# EAGLE library part PS501-0901 (library microchip2)
Single Chip Field Reprogrammable Battery Manager – Nickel Chemistries
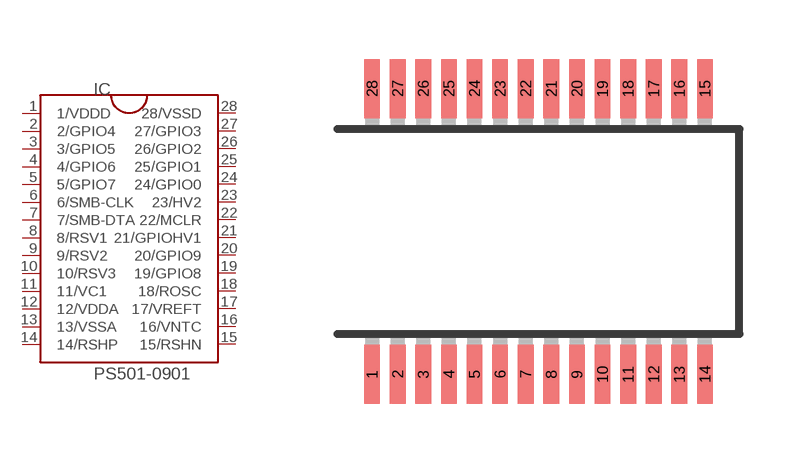
[diagram p190: symbol with the pads of SSOP28; footprint SSOP28]

Designator prefix IC

## PS501-0901  [SSOP28]
1  1/VDDD  pwr
2  2/GPIO4
3  3/GPIO5
4  4/GPIO6
5  5/GPIO7
6  6/SMB-CLK
7  7/SMB-DTA
8  8/RSV1  in
9  9/RSV2  in
10  10/RSV3  in
11  11/VC1  in
12  12/VDDA  pwr
13  13/VSSA  pwr
14  14/RSHP  in
15  15/RSHN  in
16  16/VNTC  in
17  17/VREFT  out
18  18/ROSC  in
19  19/GPIO8
20  20/GPIO9
21  21/GPIOHV1
22  22/MCLR  in
23  23/HV2
24  24/GPIO0
25  25/GPIO1
26  26/GPIO2
27  27/GPIO3
28  28/VSSD  pwr

## Footprint SSOP28 (pad centres in mm)
Shrink Small Outline Package package type SS
smd 0.4 x 1.5: 1 -4.225,-3.625; 2 -3.575,-3.625; 3 -2.925,-3.625; 4 -2.275,-3.625; 5 -1.625,-3.625; 6 -0.975,-3.625; 7 -0.325,-3.625; 8 0.325,-3.625; 9 0.975,-3.625; 10 1.625,-3.625; 11 2.275,-3.625; 12 2.925,-3.625; 13 3.575,-3.625; 14 4.225,-3.625; 15 4.225,3.625; 16 3.575,3.625; 17 2.925,3.625; 18 2.275,3.625; 19 1.625,3.625; 20 0.975,3.625; 21 0.325,3.625; 22 -0.325,3.625; 23 -0.975,3.625; 24 -1.625,3.625; 25 -2.275,3.625; 26 -2.925,3.625; 27 -3.575,3.625; 28 -4.225,3.625